# Altium schematic symbol library Pressure Sensors, Transducers.SchLib: 1 symbol
Pins are listed as number, name and electrical type; pins without a type are passive.

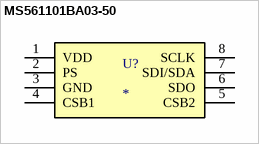
[diagram p0: symbol MS561101BA03-50]

## MS561101BA03-50
designator U?
BAROMETRIC PRESSURE SENSOR; Supplier 1: Digi-Key; Supplier 2: Farnell; Supplier 3: Mouser; Supplier 4: Arrow Electronics; Supplier Part Number 1: 223-1622-1-ND; Supplier Part Number 2: 3397822; Supplier Part Number 3: 824-MS561101BA03-50; Supplier Part Number 4: MS561101BA03-50
footprint TE_MS561101BA03-50
pins: 1 VDD, 2 PS, 3 GND, 4 CSB1, 5 CSB2, 6 SDO, 7 SDI/SDA, 8 SCLK